# Altium footprint library WA-MTAB.PcbLib: 3 footprints
Each footprint in its own frame and in the unit in brackets; x right, y up, seen from the top. Pads: shape width x height; smd on the part's side, far side on the other; paste and mask are expansions set on the pad; w line width, h text height; cw(c..) or ccw(c..) is an arc to the next point about the centre after c.
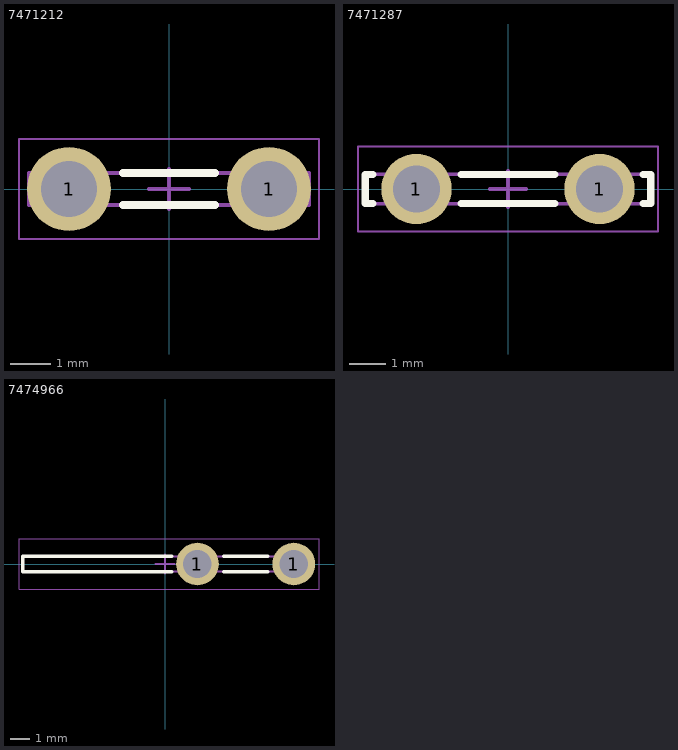
[diagram p0: the footprints below, top view; thin cyan lines are the x and y axes]

## 7471212 [mm] "Mounting Tabs & Tubular Cable Lugs"
height 13
pads (2):
  round 2.1 hole 1.4: 1(-2.5,0) 1(2.5,0)
Top Overlay:
  lines w0.2: -1.15,-0.4 1.15,-0.4 ; -1.15,0.4 1.15,0.4
Top Assembly:
  lines w0.1: -3.5,-0.4 -3.5,0.4 3.5,0.4 3.5,-0.4 -3.5,-0.4
Top Designator:
  text ".Designator" at -3.647,-0.357 h1
Top 3D Body:
  lines w0.1: -3.5,-0.4 3.5,-0.4 3.5,0.4 -3.5,0.4 -3.5,-0.4
Top Courtyard:
  lines w0.05: -3.75,-1.25 3.75,-1.25 3.75,1.25 -3.75,1.25 -3.75,-1.25
Top Component Center:
  lines w0.1: -0.5,0 0.5,0 ; 0,-0.5 0,0.5
3D body "7471212.stp": height 9.65, standoff -3.35, extent -3.5,-0.4 3.5,0.4

## 7471287 [mm] "Mounting Tabs & Tubular Cable Lugs"
height 10.21
pads (2):
  round 1.95 hole 1.3: 1(-2.54,0) 1(2.54,0)
Top Overlay:
  lines w0.2: -3.75,-0.405 -3.96,-0.405 -3.96,0.405 -3.75,0.405 ; -1.3,-0.405 1.3,-0.405 ; -1.3,0.405 1.3,0.405 ; 3.75,-0.405 3.96,-0.405 3.96,0.405 3.75,0.405
Top Assembly:
  lines w0.1: -3.96,-0.405 -3.96,0.405 3.96,0.405 3.96,-0.405 -3.96,-0.405
Top Designator:
  text ".Designator" at -3.647,-0.357 h1
Top 3D Body:
  lines w0.1: -3.96,-0.405 3.96,-0.405 3.96,0.405 -3.96,0.405 -3.96,-0.405
Top Courtyard:
  lines w0.05: -4.16,-1.175 -4.16,1.175 4.16,1.175 4.16,-1.175 -4.16,-1.175
Top Component Center:
  lines w0.1: -0.5,0 0.5,0 ; 0,-0.5 0,0.5
3D body "7471287.stp": height 10.27, standoff -3.75, extent -3.96,-0.405 3.96,0.405

## 7474966 [mm] "Mounting Tabs & Tubular Cable Lugs"
height 8.89
pads (2):
  round 2.25 hole 1.5: 1(1.705,0) 1(6.785,0)
Top Overlay:
  lines w0.2: 0.345,-0.405 -7.495,-0.405 -7.495,0.405 0.345,0.405 ; 3.1,-0.405 5.4,-0.405 ; 3.1,0.405 5.4,0.405
Top Assembly:
  lines w0.1: -7.495,-0.405 7.495,-0.405 7.495,0.405 -7.495,0.405 -7.495,-0.405
Top Designator:
  text ".Designator" at -3.647,-0.357 h1
Top 3D Body:
  lines w0.1: -7.495,-0.405 -7.495,0.405 7.495,0.405 7.495,-0.405 -7.495,-0.405
Top Courtyard:
  lines w0.05: -7.695,-1.325 -7.695,1.325 8.11,1.325 8.11,-1.325 -7.695,-1.325
Top Component Center:
  lines w0.1: -0.5,0 0.5,0 ; 0,-0.5 0,0.5
3D body "7474966.stp": height 8.98, standoff -3.72, extent -7.495,-0.405 7.495,0.405